# Altium footprint library switch-alps.PCBLIB: 1 footprints
Each footprint in its own frame and in the unit in brackets; x right, y up, seen from the top. Pads: shape width x height; smd on the part's side, far side on the other; paste and mask are expansions set on the pad; w line width, h text height; cw(c..) or ccw(c..) is an arc to the next point about the centre after c.
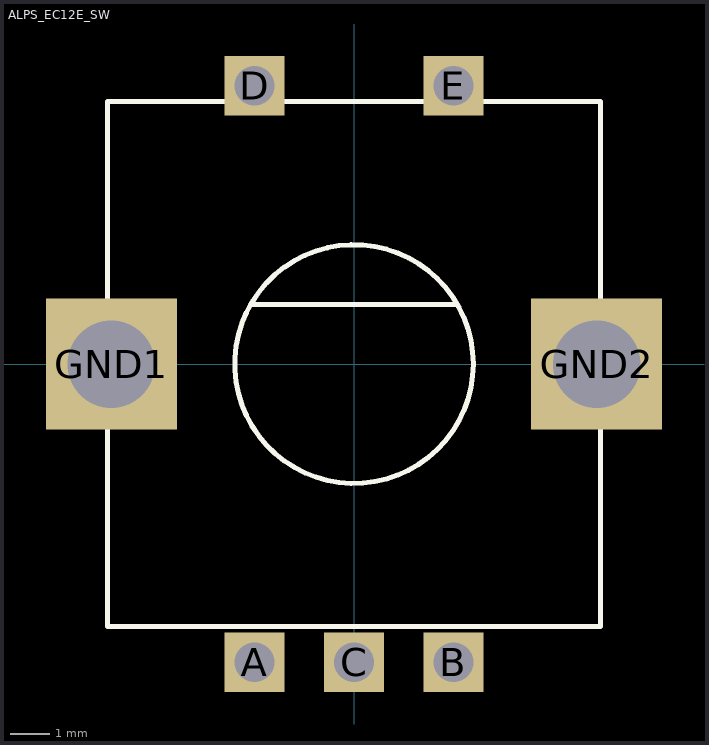
[diagram p0: the footprint, top view; thin cyan lines are the x and y axes]

## ALPS_EC12E_SW [mm]
pads (7):
  rect 1.5x1.5 hole 1: A(-2.5,-7.5) B(2.5,-7.5) C(0,-7.5) D(-2.5,7) E(2.5,7)
  rect 3.3x3.3 hole 2.2: GND1(-6.1,0) GND2(6.1,0)
Top Overlay:
  circle w0.127: c0,0 r3
  lines w0.127: -2.6,1.5 2.6,1.5 ; -6.2,-6.6 6.2,-6.6 6.2,6.6 -6.2,6.6 -6.2,-6.6